# Altium schematic symbol library SCH - POWER - LINEAR VREG - TI TPS7B85-Q1DRC.SchLib: 1 symbol
Pins are listed as number, name and electrical type; pins without a type are passive.

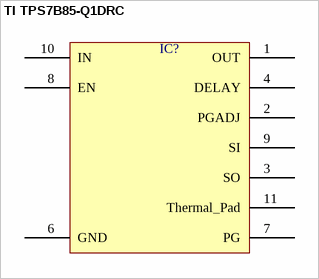
[diagram p0: symbol TI TPS7B85-Q1DRC]

## TI TPS7B85-Q1DRC
designator IC?  (value not drawn)
pins: 1 OUT, 2 PGADJ, 3 SO, 4 DELAY, 6 GND, 7 PG, 8 EN, 9 SI, 10 IN, 11 Thermal_Pad